# Altium schematic symbol library Analog Devices DigitalRes.SchLib: 1 symbol
Pins are listed as number, name and electrical type; pins without a type are passive.

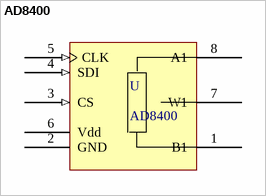
[diagram p0: symbol AD8400]

## AD8400
designator U
Digital Potentiometers
footprint SOIC127P600-8L (SOIC, 8-Leads, Body 4.9x3.9mm, Pitch 1.27mm, IPC High Density)
pins: 1 B1, 2 GND (power), 3 CS (in), 4 SDI (in), 5 CLK (in), 6 Vdd (power), 7 W1, 8 A1